# Altium footprint library Handheld.PcbLib: 77 footprints (part 1 of 5)
Each footprint in its own frame and in the unit in brackets; x right, y up, seen from the top. Pads: shape width x height; smd on the part's side, far side on the other; paste and mask are expansions set on the pad; w line width, h text height; cw(c..) or ccw(c..) is an arc to the next point about the centre after c.
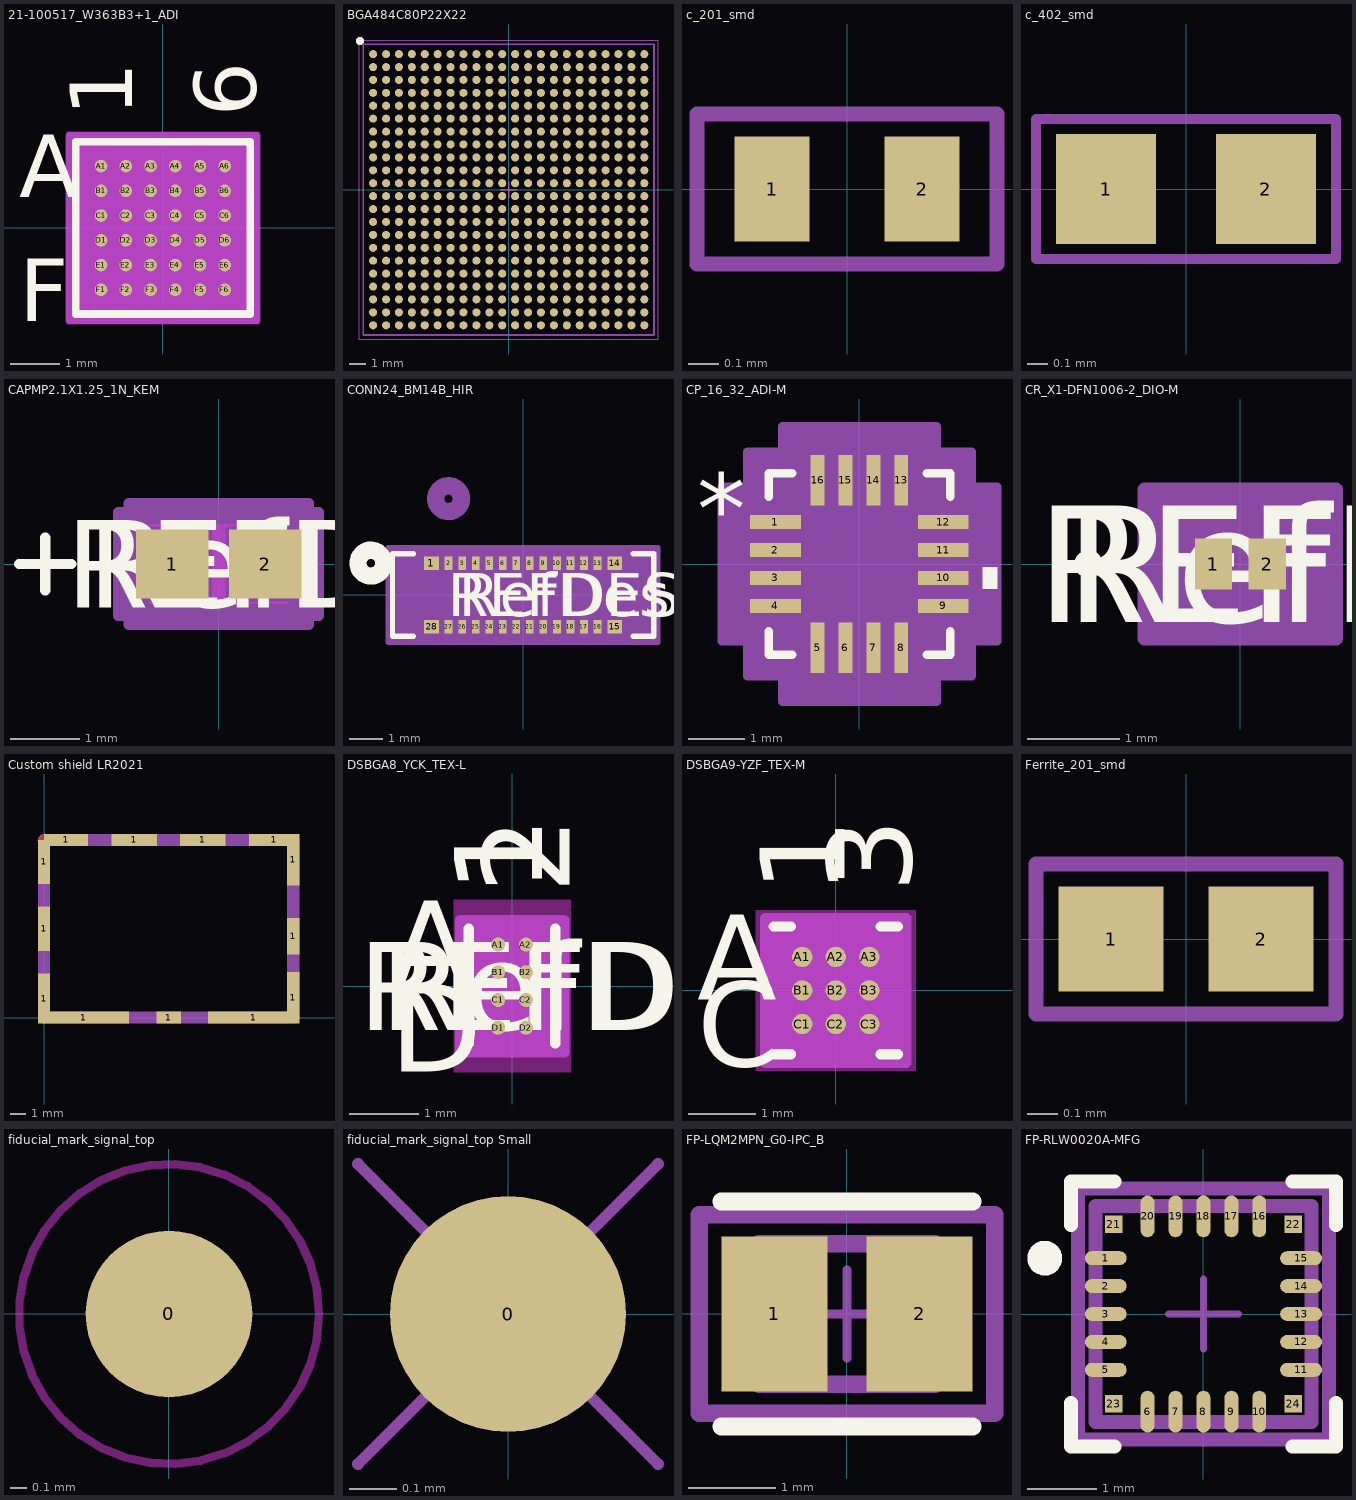
[diagram p0: the footprints below, top view; thin cyan lines are the x and y axes]

## 21-100517_W363B3+1_ADI [mm]
pads (36):
  round 0.254 smd paste+0 mask+0: A1(-1.25,1.25) A2(-0.75,1.25) A3(-0.25,1.25) A4(0.25,1.25) A5(0.75,1.25) A6(1.25,1.25) B1(-1.25,0.75) B2(-0.75,0.75) B3(-0.25,0.75) B4(0.25,0.75) B5(0.75,0.75) B6(1.25,0.75) C1(-1.25,0.25) C2(-0.75,0.25) C3(-0.25,0.25) C4(0.25,0.25) C5(0.75,0.25) C6(1.25,0.25) D1(-1.25,-0.25) D2(-0.75,-0.25) D3(-0.25,-0.25) D4(0.25,-0.25) D5(0.75,-0.25) D6(1.25,-0.25) E1(-1.25,-0.75) E2(-0.75,-0.75) E3(-0.25,-0.75) E4(0.25,-0.75) E5(0.75,-0.75) E6(1.25,-0.75) F1(-1.25,-1.25) F2(-0.75,-1.25) F3(-0.25,-1.25) F4(0.25,-1.25) F5(0.75,-1.25) F6(1.25,-1.25)
Top Overlay:
  lines w0.152: -1.765,-1.74 1.765,-1.74 1.765,1.74 -1.765,1.74 -1.765,-1.74
  text "A" at -2.908,0.615 h1.27
  text "F" at -2.908,-1.885 h1.27
  text "1" at -0.615,2.248 h1.27
  text "6" at 1.885,2.248 h1.27
  text ".Designator" at -3.492,-0.635 h1.27
Bottom Overlay:
  text "A" at -2.273,0.615 h1.27
  text "F" at -2.273,-1.885 h1.27
  text "1" at -1.885,2.248 h1.27
  text "6" at 0.615,2.248 h1.27
Keep-Out Layer:
  region: -1.944,-1.944 -1.944,1.944 1.944,1.944 1.944,-1.944
Mechanical 13:
  lines w0.025: -1.638,1.363 -1.388,1.613 ; -1.638,-1.613 1.638,-1.613 1.638,1.613 -1.638,1.613 -1.638,-1.613
  text ".Designator" at -3.492,-0.635 h1.27
  text "A" at -2.908,0.615 h1.27
  text "F" at -2.908,-1.885 h1.27
  text "1" at -0.615,2.248 h1.27
  text "6" at 1.885,2.248 h1.27
Mechanical 15:
  region: 1.892,-1.867 -1.892,-1.867 -1.892,1.867 1.892,1.867
  lines w0.152: -1.892,-1.867 -1.892,1.867 1.892,1.867 1.892,-1.867 -1.892,-1.867
3D body "21-100517_W363B3+1_ADI.step": height 0.69, standoff 0, extent -1.638,-1.613 1.638,1.613

## BGA484C80P22X22 [mm]
pads (484):
  round 0.5 smd: A1(-8.4,8.4) A2(-7.6,8.4) A3(-6.8,8.4) A4(-6,8.4) A5(-5.2,8.4) A6(-4.4,8.4) A7(-3.6,8.4) A8(-2.8,8.4) A9(-2,8.4) A10(-1.2,8.4) A11(-0.4,8.4) A12(0.4,8.4) A13(1.2,8.4) A14(2,8.4) A15(2.8,8.4) A16(3.6,8.4) A17(4.4,8.4) A18(5.2,8.4) A19(6,8.4) A20(6.8,8.4) A21(7.6,8.4) A22(8.4,8.4) AA1(-8.4,-7.6) AA2(-7.6,-7.6) AA3(-6.8,-7.6) AA4(-6,-7.6) AA5(-5.2,-7.6) AA6(-4.4,-7.6) AA7(-3.6,-7.6) AA8(-2.8,-7.6) AA9(-2,-7.6) AA10(-1.2,-7.6) AA11(-0.4,-7.6) AA12(0.4,-7.6) AA13(1.2,-7.6) AA14(2,-7.6) AA15(2.8,-7.6) AA16(3.6,-7.6) AA17(4.4,-7.6) AA18(5.2,-7.6) AA19(6,-7.6) AA20(6.8,-7.6) AA21(7.6,-7.6) AA22(8.4,-7.6) AB1(-8.4,-8.4) AB2(-7.6,-8.4) AB3(-6.8,-8.4) AB4(-6,-8.4) AB5(-5.2,-8.4) AB6(-4.4,-8.4) AB7(-3.6,-8.4) AB8(-2.8,-8.4) AB9(-2,-8.4) AB10(-1.2,-8.4) AB11(-0.4,-8.4) AB12(0.4,-8.4) AB13(1.2,-8.4) AB14(2,-8.4) AB15(2.8,-8.4) AB16(3.6,-8.4) AB17(4.4,-8.4) AB18(5.2,-8.4) AB19(6,-8.4) AB20(6.8,-8.4) AB21(7.6,-8.4) AB22(8.4,-8.4) B1(-8.4,7.6) B2(-7.6,7.6) B3(-6.8,7.6) B4(-6,7.6) B5(-5.2,7.6) B6(-4.4,7.6) B7(-3.6,7.6) B8(-2.8,7.6) B9(-2,7.6) B10(-1.2,7.6) B11(-0.4,7.6) B12(0.4,7.6) B13(1.2,7.6) B14(2,7.6) B15(2.8,7.6) B16(3.6,7.6) B17(4.4,7.6) B18(5.2,7.6) B19(6,7.6) B20(6.8,7.6) B21(7.6,7.6) B22(8.4,7.6) C1(-8.4,6.8) C2(-7.6,6.8) C3(-6.8,6.8) C4(-6,6.8) C5(-5.2,6.8) C6(-4.4,6.8) C7(-3.6,6.8) C8(-2.8,6.8) C9(-2,6.8) C10(-1.2,6.8) C11(-0.4,6.8) C12(0.4,6.8) C13(1.2,6.8) C14(2,6.8) C15(2.8,6.8) C16(3.6,6.8) C17(4.4,6.8) C18(5.2,6.8) C19(6,6.8) C20(6.8,6.8) C21(7.6,6.8) C22(8.4,6.8) D1(-8.4,6) D2(-7.6,6) D3(-6.8,6) D4(-6,6) D5(-5.2,6) D6(-4.4,6) D7(-3.6,6) D8(-2.8,6) D9(-2,6) D10(-1.2,6) D11(-0.4,6) D12(0.4,6) D13(1.2,6) D14(2,6) D15(2.8,6) D16(3.6,6) D17(4.4,6) D18(5.2,6) D19(6,6) D20(6.8,6) D21(7.6,6) D22(8.4,6) E1(-8.4,5.2) E2(-7.6,5.2) E3(-6.8,5.2) E4(-6,5.2) E5(-5.2,5.2) E6(-4.4,5.2) E7(-3.6,5.2) E8(-2.8,5.2) E9(-2,5.2) E10(-1.2,5.2) E11(-0.4,5.2) E12(0.4,5.2) E13(1.2,5.2) E14(2,5.2) E15(2.8,5.2) E16(3.6,5.2) E17(4.4,5.2) E18(5.2,5.2) E19(6,5.2) E20(6.8,5.2) E21(7.6,5.2) E22(8.4,5.2) F1(-8.4,4.4) F2(-7.6,4.4) F3(-6.8,4.4) F4(-6,4.4) F5(-5.2,4.4) F6(-4.4,4.4) F7(-3.6,4.4) F8(-2.8,4.4) F9(-2,4.4) F10(-1.2,4.4) F11(-0.4,4.4) F12(0.4,4.4) F13(1.2,4.4) F14(2,4.4) F15(2.8,4.4) F16(3.6,4.4) F17(4.4,4.4) F18(5.2,4.4) F19(6,4.4) F20(6.8,4.4) F21(7.6,4.4) F22(8.4,4.4) G1(-8.4,3.6) G2(-7.6,3.6) G3(-6.8,3.6) G4(-6,3.6) G5(-5.2,3.6) G6(-4.4,3.6) G7(-3.6,3.6) G8(-2.8,3.6) G9(-2,3.6) G10(-1.2,3.6) G11(-0.4,3.6) G12(0.4,3.6) G13(1.2,3.6) G14(2,3.6) G15(2.8,3.6) G16(3.6,3.6) G17(4.4,3.6) G18(5.2,3.6) G19(6,3.6) G20(6.8,3.6) G21(7.6,3.6) G22(8.4,3.6) H1(-8.4,2.8) H2(-7.6,2.8) H3(-6.8,2.8) H4(-6,2.8) H5(-5.2,2.8) H6(-4.4,2.8) H7(-3.6,2.8) H8(-2.8,2.8) H9(-2,2.8) H10(-1.2,2.8) H11(-0.4,2.8) H12(0.4,2.8) H13(1.2,2.8) H14(2,2.8) H15(2.8,2.8) H16(3.6,2.8) H17(4.4,2.8) H18(5.2,2.8) H19(6,2.8) H20(6.8,2.8) H21(7.6,2.8) H22(8.4,2.8) J1(-8.4,2) J2(-7.6,2) J3(-6.8,2) J4(-6,2) J5(-5.2,2) J6(-4.4,2) J7(-3.6,2) J8(-2.8,2) J9(-2,2) J10(-1.2,2) J11(-0.4,2) J12(0.4,2) J13(1.2,2) J14(2,2) J15(2.8,2) J16(3.6,2) J17(4.4,2) J18(5.2,2) J19(6,2) J20(6.8,2) J21(7.6,2) J22(8.4,2) K1(-8.4,1.2) K2(-7.6,1.2) K3(-6.8,1.2) K4(-6,1.2) K5(-5.2,1.2) K6(-4.4,1.2) K7(-3.6,1.2) K8(-2.8,1.2) K9(-2,1.2) K10(-1.2,1.2) K11(-0.4,1.2) K12(0.4,1.2) K13(1.2,1.2) K14(2,1.2) K15(2.8,1.2) K16(3.6,1.2) K17(4.4,1.2) K18(5.2,1.2) K19(6,1.2) K20(6.8,1.2) K21(7.6,1.2) K22(8.4,1.2) L1(-8.4,0.4) L2(-7.6,0.4) L3(-6.8,0.4) L4(-6,0.4) L5(-5.2,0.4) L6(-4.4,0.4) L7(-3.6,0.4) L8(-2.8,0.4) L9(-2,0.4) L10(-1.2,0.4) L11(-0.4,0.4) L12(0.4,0.4) L13(1.2,0.4) L14(2,0.4) L15(2.8,0.4) L16(3.6,0.4) L17(4.4,0.4) L18(5.2,0.4) L19(6,0.4) L20(6.8,0.4) L21(7.6,0.4) L22(8.4,0.4) M1(-8.4,-0.4) M2(-7.6,-0.4) M3(-6.8,-0.4) M4(-6,-0.4) M5(-5.2,-0.4) M6(-4.4,-0.4) M7(-3.6,-0.4) M8(-2.8,-0.4) M9(-2,-0.4) M10(-1.2,-0.4) M11(-0.4,-0.4) M12(0.4,-0.4) M13(1.2,-0.4) M14(2,-0.4) M15(2.8,-0.4) M16(3.6,-0.4) M17(4.4,-0.4) M18(5.2,-0.4) M19(6,-0.4) M20(6.8,-0.4) M21(7.6,-0.4) M22(8.4,-0.4) N1(-8.4,-1.2) N2(-7.6,-1.2) N3(-6.8,-1.2) N4(-6,-1.2) N5(-5.2,-1.2) N6(-4.4,-1.2) N7(-3.6,-1.2) N8(-2.8,-1.2) N9(-2,-1.2) N10(-1.2,-1.2) N11(-0.4,-1.2) N12(0.4,-1.2) N13(1.2,-1.2) N14(2,-1.2) N15(2.8,-1.2) N16(3.6,-1.2) N17(4.4,-1.2) N18(5.2,-1.2) N19(6,-1.2) N20(6.8,-1.2) N21(7.6,-1.2) N22(8.4,-1.2) P1(-8.4,-2) P2(-7.6,-2) P3(-6.8,-2) P4(-6,-2) P5(-5.2,-2) P6(-4.4,-2) P7(-3.6,-2) P8(-2.8,-2) P9(-2,-2) P10(-1.2,-2) P11(-0.4,-2) P12(0.4,-2) P13(1.2,-2) P14(2,-2) P15(2.8,-2) P16(3.6,-2) P17(4.4,-2) P18(5.2,-2) P19(6,-2) P20(6.8,-2) P21(7.6,-2) P22(8.4,-2) R1(-8.4,-2.8) R2(-7.6,-2.8) R3(-6.8,-2.8) R4(-6,-2.8) R5(-5.2,-2.8) R6(-4.4,-2.8) R7(-3.6,-2.8) R8(-2.8,-2.8) R9(-2,-2.8) R10(-1.2,-2.8) R11(-0.4,-2.8) R12(0.4,-2.8) R13(1.2,-2.8) R14(2,-2.8) R15(2.8,-2.8) R16(3.6,-2.8) R17(4.4,-2.8) R18(5.2,-2.8) R19(6,-2.8) R20(6.8,-2.8) R21(7.6,-2.8) R22(8.4,-2.8) T1(-8.4,-3.6) T2(-7.6,-3.6) T3(-6.8,-3.6) T4(-6,-3.6) T5(-5.2,-3.6) T6(-4.4,-3.6) T7(-3.6,-3.6) T8(-2.8,-3.6) T9(-2,-3.6) T10(-1.2,-3.6) T11(-0.4,-3.6) T12(0.4,-3.6) T13(1.2,-3.6) T14(2,-3.6) T15(2.8,-3.6) T16(3.6,-3.6) T17(4.4,-3.6) T18(5.2,-3.6) T19(6,-3.6) T20(6.8,-3.6) T21(7.6,-3.6) T22(8.4,-3.6) U1(-8.4,-4.4) U2(-7.6,-4.4) U3(-6.8,-4.4) U4(-6,-4.4) U5(-5.2,-4.4) U6(-4.4,-4.4) U7(-3.6,-4.4) U8(-2.8,-4.4) U9(-2,-4.4) U10(-1.2,-4.4) U11(-0.4,-4.4) U12(0.4,-4.4) U13(1.2,-4.4) U14(2,-4.4) U15(2.8,-4.4) U16(3.6,-4.4) U17(4.4,-4.4) U18(5.2,-4.4) U19(6,-4.4) U20(6.8,-4.4) U21(7.6,-4.4) U22(8.4,-4.4) V1(-8.4,-5.2) V2(-7.6,-5.2) V3(-6.8,-5.2) V4(-6,-5.2) V5(-5.2,-5.2) V6(-4.4,-5.2) V7(-3.6,-5.2) V8(-2.8,-5.2) V9(-2,-5.2) V10(-1.2,-5.2) V11(-0.4,-5.2) V12(0.4,-5.2) V13(1.2,-5.2) V14(2,-5.2) V15(2.8,-5.2) V16(3.6,-5.2) V17(4.4,-5.2) V18(5.2,-5.2) V19(6,-5.2) V20(6.8,-5.2) V21(7.6,-5.2) V22(8.4,-5.2) W1(-8.4,-6) W2(-7.6,-6) W3(-6.8,-6) W4(-6,-6) W5(-5.2,-6) W6(-4.4,-6) W7(-3.6,-6) W8(-2.8,-6) W9(-2,-6) W10(-1.2,-6) W11(-0.4,-6) W12(0.4,-6) W13(1.2,-6) W14(2,-6) W15(2.8,-6) W16(3.6,-6) W17(4.4,-6) W18(5.2,-6) W19(6,-6) W20(6.8,-6) W21(7.6,-6) W22(8.4,-6) Y1(-8.4,-6.8) Y2(-7.6,-6.8) Y3(-6.8,-6.8) Y4(-6,-6.8) Y5(-5.2,-6.8) Y6(-4.4,-6.8) Y7(-3.6,-6.8) Y8(-2.8,-6.8) Y9(-2,-6.8) Y10(-1.2,-6.8) Y11(-0.4,-6.8) Y12(0.4,-6.8) Y13(1.2,-6.8) Y14(2,-6.8) Y15(2.8,-6.8) Y16(3.6,-6.8) Y17(4.4,-6.8) Y18(5.2,-6.8) Y19(6,-6.8) Y20(6.8,-6.8) Y21(7.6,-6.8) Y22(8.4,-6.8)
Top Overlay:
  circle w0.25: c-9.21,9.21 r0.125
Mechanical 13:
  lines w0.1: -9,-9 -9,9 9,9 9,-9 -9,-9
Mechanical 15:
  lines w0.05: -9.25,-9.25 -9.25,9.25 9.25,9.25 9.25,-9.25 -9.25,-9.25
  lines w0.1: -0.5,0 0.5,0 ; 0,-0.5 0,0.5
3D body: height 3.5, standoff 0.3, extent -9,-9 9,9

## c_201_smd [mm] "Chip SMD component 201; Body 0.6 x 0.3 mm (LxW typ); small footprint"
height 0.3
pads (2):
  rect 0.25x0.35 smd paste+0 mask+0.025: 1(-0.25,0) 2(0.25,0)
Mechanical 15:
  lines w0.05: -0.5,-0.25 -0.5,0.25 0.5,0.25 0.5,-0.25 -0.5,-0.25
3D body "GRM033.STEP": height 0.3, standoff 0, extent -0.3,-0.15 0.3,0.15

## c_402_smd [mm] "Chip SMD component 402; Body 1.0 x 0.5 mm (LxW typ);small footprint"
height 0.8
pads (2):
  rect 0.5x0.55 smd mask+0.025: 1(-0.4,0) 2(0.4,0)
Mechanical 15:
  lines w0.05: -0.75,-0.35 0.75,-0.35 0.75,0.35 -0.75,0.35 -0.75,-0.35
3D body "GRM155.STEP": height 0.55, standoff 0, extent -0.5,-0.25 0.5,0.25

## CAPMP2.1X1.25_1N_KEM [mm]
pads (2):
  rect 1.055x1 smd paste+0 mask+0: 1(-0.675,0) 2(0.675,0)
Top Layer keep-out:
  region: -0.096,-0.551 -0.096,0.551 0.096,0.551 0.096,-0.551
  region: -0.999,0.551 -0.999,0.574 0.999,0.574 0.999,0.551
  region: -0.999,-0.574 -0.999,-0.551 0.999,-0.551 0.999,-0.574
Top Overlay:
  lines w0.152: -2.901,0 -2.139,0 ; -2.52,-0.381 -2.52,0.381
  text "RefDes" at -1.905,-0.635 h1.27
  text "REFDES" at -2.222,-0.635 h1.27
Keep-Out Layer:
  region: -0.096,-0.551 -0.096,0.551 0.096,0.551 0.096,-0.551
Mechanical 13:
  lines w0.025: -2.901,0 -2.139,0 ; -2.52,-0.381 -2.52,0.381 ; -1.05,-0.625 1.05,-0.625 1.05,0.625 -1.05,0.625 -1.05,-0.625
  text "RefDes2" at -2.222,-0.635 h1.27
Mechanical 15:
  region: -1.304,-0.754 -1.456,-0.754 -1.456,0.754 -1.304,0.754 -1.304,0.879 1.304,0.879 1.304,0.754 1.456,0.754 1.456,-0.754 1.304,-0.754 1.304,-0.879 -1.304,-0.879
  lines w0.152: -1.456,-0.754 -1.456,0.754 -1.304,0.754 -1.304,0.879 1.304,0.879 1.304,0.754 1.456,0.754 1.456,-0.754 1.304,-0.754 1.304,-0.879 -1.304,-0.879 -1.304,-0.754 -1.456,-0.754
3D body "CAPMP21X125_1N_KEM.step": height 1.05, standoff 0, extent -1.05,-0.625 1.05,0.625

## CONN24_BM14B_HIR [mil]
pads (28):
  rect 17x16 smd paste-8.5 mask-8.5: 1(-106.5,37.01) 14(106.5,37.01) 15(106.5,-37.01) 28(-106.5,-37.01)
  rect 9x16 smd paste+0 mask+0: 2(-86.62,37.01) 3(-70.88,37.01) 4(-55.12,37.01) 5(-39.38,37.01) 6(-23.62,37.01) 7(-7.88,37.01) 8(7.88,37.01) 9(23.62,37.01) 10(39.38,37.01) 11(55.12,37.01) 12(70.88,37.01) 13(86.62,37.01) 16(86.62,-37.01) 17(70.88,-37.01) 18(55.12,-37.01) 19(39.38,-37.01) 20(23.62,-37.01) 21(7.88,-37.01) 22(-7.88,-37.01) 23(-23.62,-37.01) 24(-39.38,-37.01) 25(-55.12,-37.01) 26(-70.88,-37.01) 27(-86.62,-37.01)
Top Overlay:
  circle w20: c-177,37.01 r15
  lines w6: -127.75,-48 -152,-48 -152,48 -127.75,48 ; 127.75,-48 152,-48 152,48 127.75,48
  text "RefDes" at -75,-25 h50
  text "REFDES" at -87.5,-25 h50
Bottom Overlay:
  circle w20: c-177,37.01 r15
Mechanical 13:
  circle w20: c-86.62,112.01 r15
  lines w1: -147,-43 147,-43 147,43 -147,43 -147,-43
  text "RefDes2" at -87.5,-25 h50
Mechanical 15:
  region: 157,55.01 -157,55.01 -157,-55.01 157,-55.01
  lines w6: -157,-55.01 -157,55.01 157,55.01 157,-55.01 -157,-55.01
3D body "BM14B(0.8)-24DS-0.4V.stp": height 31.5, standoff 0, extent -143.9,-39.48 142.71,38.47

## CP_16_32_ADI-M [mm]
pads (16):
  rect 0.906x0.249 smd paste+0 mask+0: 1(-1.503,0.75) 2(-1.503,0.25) 3(-1.503,-0.25) 4(-1.503,-0.75) 9(1.503,-0.75) 10(1.503,-0.25) 11(1.503,0.25) 12(1.503,0.75)
  rect 0.249x0.906 smd paste+0 mask+0: 5(-0.75,-1.503) 6(-0.25,-1.503) 7(0.25,-1.503) 8(0.75,-1.503) 13(0.75,1.503) 14(0.25,1.503) 15(-0.25,1.503) 16(-0.75,1.503)
Top Overlay:
  region: 2.21,-0.059 2.464,-0.059 2.464,-0.44 2.21,-0.44
  lines w0.152: -1.627,-1.207 -1.627,-1.627 -1.207,-1.627 ; -1.627,1.207 -1.627,1.627 -1.207,1.627 ; 1.207,-1.627 1.627,-1.627 1.627,-1.207 ; 1.207,1.627 1.627,1.627 1.627,1.207
  text "*" at -2.909,0.365 h1.27
  text ".Designator" at -3.492,-0.635 h1.27
Mechanical 13:
  lines w0.025: -1.5,0.23 -0.23,1.5 ; -1.55,-0.9 -1.55,-0.6 -1.5,-0.6 -1.5,-0.9 -1.55,-0.9 ; -1.55,-0.4 -1.55,-0.1 -1.5,-0.1 -1.5,-0.4 -1.55,-0.4 ; -1.55,0.1 -1.55,0.4 -1.5,0.4 -1.5,0.1 -1.55,0.1 ; -1.55,0.6 -1.55,0.9 -1.5,0.9 -1.5,0.6 -1.55,0.6 ; -1.5,-1.5 1.5,-1.5 1.5,1.5 -1.5,1.5 -1.5,-1.5 ; -0.9,-1.55 -0.9,-1.5 -0.6,-1.5 -0.6,-1.55 -0.9,-1.55 ; -0.9,1.5 -0.6,1.5 -0.6,1.55 -0.9,1.55 -0.9,1.5 ; -0.4,-1.55 -0.4,-1.5 -0.1,-1.5 -0.1,-1.55 -0.4,-1.55 ; -0.4,1.5 -0.1,1.5 -0.1,1.55 -0.4,1.55 -0.4,1.5 ; 0.1,-1.55 0.1,-1.5 0.4,-1.5 0.4,-1.55 0.1,-1.55 ; 0.1,1.5 0.4,1.5 0.4,1.55 0.1,1.55 0.1,1.5 ; 0.6,-1.55 0.6,-1.5 0.9,-1.5 0.9,-1.55 0.6,-1.55 ; 0.6,1.5 0.9,1.5 0.9,1.55 0.6,1.55 0.6,1.5 ; 1.5,-0.9 1.5,-0.6 1.55,-0.6 1.55,-0.9 1.5,-0.9 ; 1.5,-0.4 1.5,-0.1 1.55,-0.1 1.55,-0.4 1.5,-0.4 ; 1.5,0.1 1.5,0.4 1.55,0.4 1.55,0.1 1.5,0.1 ; 1.5,0.6 1.5,0.9 1.55,0.9 1.55,0.6 1.5,0.6
  text ".Designator" at -3.492,-0.635 h1.27
  text "*" at -1.368,0.365 h1.27
Mechanical 15:
  region: -1.383,-2.008 -2.008,-2.008 -2.008,-1.383 -2.464,-1.383 -2.464,1.383 -2.008,1.383 -2.008,2.008 -1.383,2.008 -1.383,2.464 1.383,2.464 1.383,2.008 2.008,2.008 2.008,1.383 2.464,1.383 2.464,-1.383 2.008,-1.383 2.008,-2.008 1.383,-2.008 1.383,-2.464 -1.383,-2.464
  lines w0.152: -2.464,-1.383 -2.008,-1.383 -2.008,-2.008 -1.383,-2.008 -1.383,-2.464 1.383,-2.464 1.383,-2.008 2.008,-2.008 2.008,-1.383 2.464,-1.383 2.464,1.383 2.008,1.383 2.008,2.008 1.383,2.008 1.383,2.464 -1.383,2.464 -1.383,2.008 -2.008,2.008 -2.008,1.383 -2.464,1.383 -2.464,-1.383
3D body "CP_16_32_ADI.step": height 0.8, standoff 0, extent -1.55,-1.55 1.55,1.55

## CR_X1-DFN1006-2_DIO-M [mil]
pads (2):
  rect 16x22 smd paste+0 mask-1: 1(-11.5,0) 2(11.5,0)
Top Overlay:
  circle w6: c-65,0 r3
  text "REFDES" at -87.5,-25 h50
  text "RefDes" at -75,-25 h50
Mechanical 13:
  circle w0: c0,0 r3
  lines w1: -21,-12 21,-12 21,12 -21,12 -21,-12
  text "RefDes2" at -87.5,-25 h50
Mechanical 15:
  region: -41,-31 -41,31 -41,32 41,32 41,31 41,-31 41,-32 -41,-32
  lines w6: -41,-32 -41,-31 -41,31 -41,32 41,32 41,31 41,-31 41,-32 -41,-32
3D body "CR_X1-DFN1006-2_DIO.step": height 21.1, standoff 0, extent -20.98,-12.01 20.98,12.01

## Custom shield LR2021 [mm] "Shielding Cabinet, SMD Frame, body mm"
height 3.3
pads (13):
  rect 0.8x3.3 smd paste+0 mask+0: 1(0,1.25)
  rect 0.8x2.9 smd paste+0 mask+0: 1(0,5.85) 1(0,10.25)
  rect 2.9x0.8 smd paste+0 mask+0: 1(1.45,11.7)
  rect 6x0.8 smd paste+0 mask+0: 1(2.6,0) 1(13.8,0)
  rect 3x0.8 smd paste+0 mask+0: 1(5.95,11.7) 1(10.45,11.7)
  rect 1.6x0.8 smd paste+0 mask+0: 1(8.2,0)
  rect 3.3x0.8 smd paste+0 mask+0: 1(15.15,11.7)
  rect 0.8x3.4 smd paste+0 mask+0: 1(16.4,1.3) 1(16.4,10.4)
  rect 0.8x2.4 smd paste+0 mask+0: 1(16.4,5.35)
Top Layer:
  region: -0.4,11.725 -0.025,12.1 0.075,12.1 0.075,11.625 -0.4,11.625
Top Paste:
  region: -0.4,11.95 -0.25,12.1 0.05,12.1 0.05,11.65 -0.4,11.65
Top Solder:
  region: -0.4,12 -0.3,12.1 0.075,12.1 0.075,11.625 -0.4,11.625
Mechanical 7:
  lines w0.1: 0,0 16.4,0 16.4,11.7 0,11.7 0,0
Mechanical 11:
  lines w0.8: 0,0 16.4,0 16.4,11.7 0,11.7 0,0
Mechanical 15:
  lines w0.05: 0,0 16.4,0 16.4,11.7 0,11.7 0,0
3D body: height 0.63, standoff -0.63, extent -0.15,-0.15 0.15,0.15

## DSBGA8_YCK_TEX-L [mil]
pads (8):
  round 8 smd paste+0 mask+0: A1(-7.87,23.62) A2(7.87,23.62) B1(-7.87,7.88) B2(7.87,7.88) C1(-7.87,-7.88) C2(7.87,-7.88) D1(-7.87,-23.62) D2(7.87,-23.62)
Top Overlay:
  lines w6: -24.5,-32.5 -24.5,32.5 ; 24.5,-32.5 24.5,32.5
  text "REFDES" at -87.5,-25 h50
  text "RefDes" at -75,-25 h50
  text "2" at 32.87,52.5 h50
  text "1" at 17.13,52.5 h50
  text "D" at -69.5,-48.62 h50
  text "A" at -69.5,-1.38 h50
Bottom Overlay:
  text "2" at -17.13,52.5 h50
  text "1" at -32.87,52.5 h50
  text "D" at -44.5,-48.62 h50
  text "A" at -44.5,-1.38 h50
Keep-Out Layer:
  region: -33.25,-49 -33.25,49 33.25,49 33.25,-49
Mechanical 13:
  lines w1: -19.5,19.62 -11.63,27.5 ; -19.5,-27.5 -19.5,27.5 19.5,27.5 19.5,-27.5 -19.5,-27.5
  text "RefDes2" at -87.5,-25 h50
  text "2" at 32.87,52.5 h50
  text "1" at 17.13,52.5 h50
  text "D" at -69.5,-48.62 h50
  text "A" at -69.5,-1.38 h50
Mechanical 15:
  region: 29.5,-37.5 -29.5,-37.5 -29.5,37.5 29.5,37.5
  lines w6: -29.5,-37.5 29.5,-37.5 29.5,37.5 -29.5,37.5 -29.5,-37.5
3D body "DSBGA8_YCK_TEX.step": height 20.12, standoff 0, extent -19.49,-28.55 19.49,28.55

## DSBGA9-YZF_TEX-M [mm]
pads (9):
  round 0.302 smd paste+0 mask+0: A1(-0.5,0.5) A2(0,0.5) A3(0.5,0.5) B1(-0.5,0) B2(0,0) B3(0.5,0) C1(-0.5,-0.5) C2(0,-0.5) C3(0.5,-0.5)
Top Overlay:
  lines w0.152: -0.927,-0.953 -0.672,-0.953 ; -0.927,0.953 -0.672,0.953 ; 0.672,-0.953 0.927,-0.953 ; 0.672,0.953 0.927,0.953
  text "A" at -2.07,-0.135 h1.27
  text "C" at -2.07,-1.135 h1.27
  text "1" at 0.135,1.46 h1.27
  text "3" at 1.135,1.46 h1.27
  text ".Designator" at -3.492,-0.635 h1.27
Bottom Overlay:
  text "A" at -1.435,-0.135 h1.27
  text "C" at -1.435,-1.135 h1.27
  text "1" at -1.135,1.46 h1.27
  text "3" at -0.135,1.46 h1.27
Keep-Out Layer:
  region: -1.195,-1.195 -1.195,1.195 1.195,1.195 1.195,-1.195
Mechanical 13:
  lines w0.025: -0.8,0.575 -0.55,0.826 ; -0.8,-0.826 0.8,-0.826 0.8,0.826 -0.8,0.826 -0.8,-0.826
  text ".Designator" at -3.492,-0.635 h1.27
  text "A" at -2.07,-0.135 h1.27
  text "C" at -2.07,-1.135 h1.27
  text "1" at 0.135,1.46 h1.27
  text "3" at 1.135,1.46 h1.27
Mechanical 15:
  region: 1.054,-1.079 -1.054,-1.079 -1.054,1.079 1.054,1.079
  lines w0.152: -1.054,-1.079 -1.054,1.079 1.054,1.079 1.054,-1.079 -1.054,-1.079
3D body "DSBGA9-YZF_TEX.step": height 0.64, standoff 0, extent -0.8,-0.826 0.8,0.826

## Ferrite_201_smd [mm] "Chip SMD component 201; Body 0.6 x 0.3 mm (LxW typ); small footprint"
height 0.3
pads (2):
  rect 0.35x0.35 smd paste+0 mask+0.025: 1(-0.25,0) 2(0.25,0)
Mechanical 15:
  lines w0.05: -0.5,-0.25 -0.5,0.25 0.5,0.25 0.5,-0.25 -0.5,-0.25
3D body "GRM033.STEP": height 0.3, standoff 0, extent -0.3,-0.15 0.3,0.15

## fiducial_mark_signal_top [mm] "Fiducial mark for automatic assembly"
height 0.1
pads (1):
  round 1 smd paste-2 mask+0.5: 0(0,0)
Top Layer keep-out:
  circle w0.05: c0,0 r0.9
Mechanical 15:
  lines w0.025: -0.318,-0.318 0.318,0.318 ; -0.318,0.318 0.318,-0.318

## fiducial_mark_signal_top Small [mm] "Fiducial mark for automatic assembly - small size"
height 0.1
pads (1):
  round 0.5 smd paste-2 mask+0.1: 0(0,0)
Mechanical 15:
  lines w0.025: -0.318,-0.318 0.318,0.318 ; -0.318,0.318 0.318,-0.318

## FP-LQM2MPN_G0-IPC_B [mm]
pads (2):
  rect 1.206x1.758 smd paste+0 mask+0: 1(-0.826,0) 2(0.826,0)
Top Overlay:
  lines w0.2: -1.429,-1.279 1.429,-1.279 ; -1.429,1.279 1.429,1.279
Top 3D Body:
  lines w0.2: -1,-0.8 1,-0.8 1,0.8 -1,0.8 -1,-0.8
Top Courtyard:
  lines w0.2: -1.679,-1.129 1.679,-1.129 1.679,1.129 -1.679,1.129 -1.679,-1.129
Top Assembly:
  lines w0.2: -1.679,-1.129 1.679,-1.129 1.679,1.129 -1.679,1.129 -1.679,-1.129
  text ".Designator" at 0,0.188 h1
Top Component Center:
  lines w0.1: -0.5,0 0.5,0 ; 0,-0.5 0,0.5
3D body "Ind_Murata_LQM2MPN1R5MG0B_eec.STEP": height 0.25, standoff 0, extent -1.679,-1.129 1.679,1.129

## FP-RLW0020A-MFG [mm]
pads (24):
  rrect100% 0.6x0.2 smd paste+0 mask+0: 1(-1.4,0.8) 2(-1.4,0.4) 3(-1.4,0) 4(-1.4,-0.4) 5(-1.4,-0.8) 11(1.4,-0.8) 12(1.4,-0.4) 13(1.4,0) 14(1.4,0.4) 15(1.4,0.8)
  rrect100% 0.2x0.6 smd paste+0 mask+0: 6(-0.8,-1.4) 7(-0.4,-1.4) 8(0,-1.4) 9(0.4,-1.4) 10(0.8,-1.4) 16(0.8,1.4) 17(0.4,1.4) 18(0,1.4) 19(-0.4,1.4) 20(-0.8,1.4)
  rect 0.25x0.25 smd paste+0 mask+0: 21(-1.288,1.288) 22(1.288,1.288) 23(-1.288,-1.288) 24(1.288,-1.288)
Top Overlay:
  circle w0.25: c-2.275,0.8 r0.125
  lines w0.2: -1.9,-1.275 -1.9,-1.9 -1.275,-1.9 ; -1.9,1.275 -1.9,1.9 -1.275,1.9 ; 1.275,-1.9 1.9,-1.9 1.9,-1.275 ; 1.275,1.9 1.9,1.9 1.9,1.275
Top 3D Body:
  lines w0.2: -1.55,-1.55 1.55,-1.55 1.55,1.55 -1.55,1.55 -1.55,-1.55
Top Courtyard:
  lines w0.2: -1.8,-1.8 1.8,-1.8 1.8,1.8 -1.8,1.8 -1.8,-1.8
Top Assembly:
  lines w0.2: -1.8,-1.8 1.8,-1.8 1.8,1.8 -1.8,1.8 -1.8,-1.8
  text ".Designator" at 0,0.188 h1
Top Component Center:
  lines w0.1: -0.5,0 0.5,0 ; 0,-0.5 0,0.5
3D body "IC_Texas_Instruments_TPS22993RLWR_eec.STEP": height 0.25, standoff 0, extent -1.8,-1.8 1.8,1.8